# EAGLE library part TQFP-100 (library SM-IC-Packages)
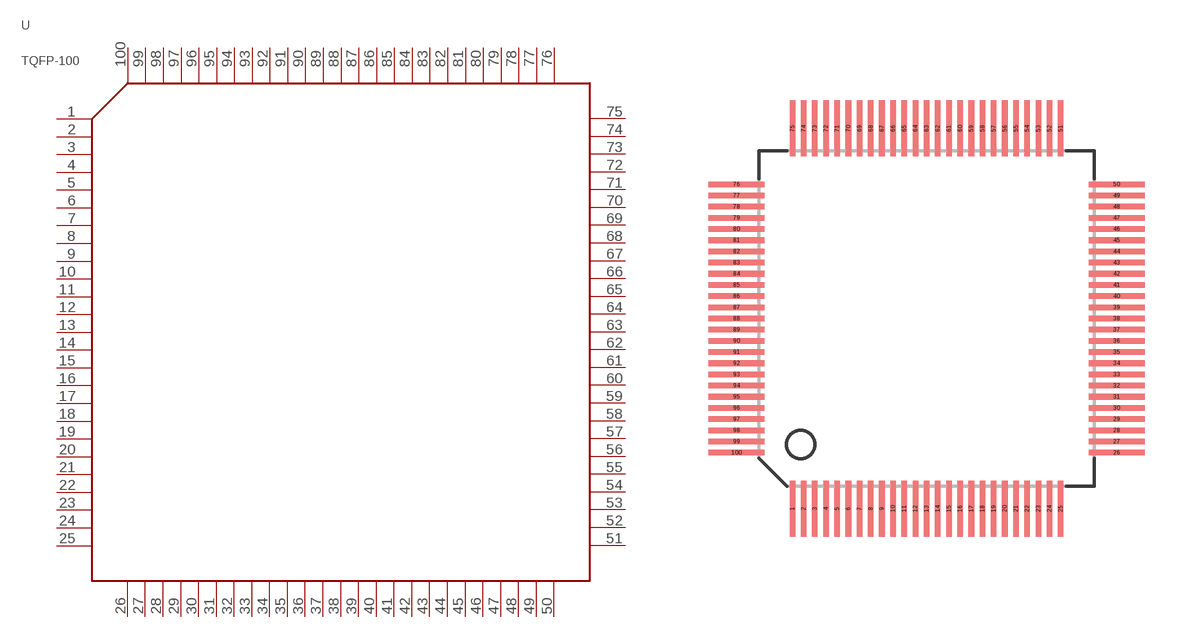
[diagram p2: symbol with the pads of TQFP100_12X12; footprint TQFP100_12X12]

Designator prefix -

## TQFP-100  [TQFP100_12X12]
1  P$1
2  P$2
3  P$3
4  P$4
5  P$5
6  P$6
7  P$7
8  P$8
9  P$9
10  P$10
11  P$11
12  P$12
13  P$13
14  P$14
15  P$15
16  P$16
17  P$17
18  P$18
19  P$19
20  P$20
21  P$21
22  P$22
23  P$23
24  P$24
25  P$25
26  P$26
27  P$27
28  P$28
29  P$29
30  P$30
31  P$31
32  P$32
33  P$33
34  P$34
35  P$35
36  P$36
37  P$37
38  P$38
39  P$39
40  P$40
41  P$41
42  P$42
43  P$43
44  P$44
45  P$45
46  P$46
47  P$47
48  P$48
49  P$49
50  P$50
51  P$51
52  P$52
53  P$53
54  P$54
55  P$55
56  P$56
57  P$57
58  P$58
59  P$59
60  P$60
61  P$61
62  P$62
63  P$63
64  P$64
65  P$65
66  P$66
67  P$67
68  P$68
69  P$69
70  P$70
71  P$71
72  P$72
73  P$73
74  P$74
75  P$75
76  P$76
77  P$77
78  P$78
79  P$79
80  P$80
81  P$81
82  P$82
83  P$83
84  P$84
85  P$85
86  P$86
87  P$87
88  P$88
89  P$89
90  P$90
91  P$91
92  P$92
93  P$93
94  P$94
95  P$95
96  P$96
97  P$97
98  P$98
99  P$99
100  P$100

## Footprint TQFP100_12X12 (pad centres in mm)
TQFP100 12 X 12 MM
smd 0.2 x 2: 1 -4.8,-6.8; 2 -4.4,-6.8; 3 -4,-6.8; 4 -3.6,-6.8; 5 -3.2,-6.8; 6 -2.8,-6.8; 7 -2.4,-6.8; 8 -2,-6.8; 9 -1.6,-6.8; 10 -1.2,-6.8; 11 -0.8,-6.8; 12 -0.4,-6.8; 13 0,-6.8; 14 0.4,-6.8; 15 0.8,-6.8; 16 1.2,-6.8; 17 1.6,-6.8; 18 2,-6.8; 19 2.4,-6.8; 20 2.8,-6.8; 21 3.2,-6.8; 22 3.6,-6.8; 23 4,-6.8; 24 4.4,-6.8; 25 4.8,-6.8; 51 4.8,6.8; 52 4.4,6.8; 53 4,6.8; 54 3.6,6.8; 55 3.2,6.8; 56 2.8,6.8; 57 2.4,6.8; 58 2,6.8; 59 1.6,6.8; 60 1.2,6.8; 61 0.8,6.8; 62 0.4,6.8; 63 0,6.8; 64 -0.4,6.8; 65 -0.8,6.8; 66 -1.2,6.8; 67 -1.6,6.8; 68 -2,6.8; 69 -2.4,6.8; 70 -2.8,6.8; 71 -3.2,6.8; 72 -3.6,6.8; 73 -4,6.8; 74 -4.4,6.8; 75 -4.8,6.8
smd 2 x 0.2: 26 6.8,-4.8; 27 6.8,-4.4; 28 6.8,-4; 29 6.8,-3.6; 30 6.8,-3.2; 31 6.8,-2.8; 32 6.8,-2.4; 33 6.8,-2; 34 6.8,-1.6; 35 6.8,-1.2; 36 6.8,-0.8; 37 6.8,-0.4; 38 6.8,0; 39 6.8,0.4; 40 6.8,0.8; 41 6.8,1.2; 42 6.8,1.6; 43 6.8,2; 44 6.8,2.4; 45 6.8,2.8; 46 6.8,3.2; 47 6.8,3.6; 48 6.8,4; 49 6.8,4.4; 50 6.8,4.8; 76 -6.8,4.8; 77 -6.8,4.4; 78 -6.8,4; 79 -6.8,3.6; 80 -6.8,3.2; 81 -6.8,2.8; 82 -6.8,2.4; 83 -6.8,2; 84 -6.8,1.6; 85 -6.8,1.2; 86 -6.8,0.8; 87 -6.8,0.4; 88 -6.8,0; 89 -6.8,-0.4; 90 -6.8,-0.8; 91 -6.8,-1.2; 92 -6.8,-1.6; 93 -6.8,-2; 94 -6.8,-2.4; 95 -6.8,-2.8; 96 -6.8,-3.2; 97 -6.8,-3.6; 98 -6.8,-4; 99 -6.8,-4.4; 100 -6.8,-4.8